# Altium schematic symbol library SCH - MCU - SI LABS - SI LABS EFM32G200F64 32-PIN QFN 6X6.SchLib: 1 symbol
Pins are listed as number, name and electrical type; pins without a type are passive.

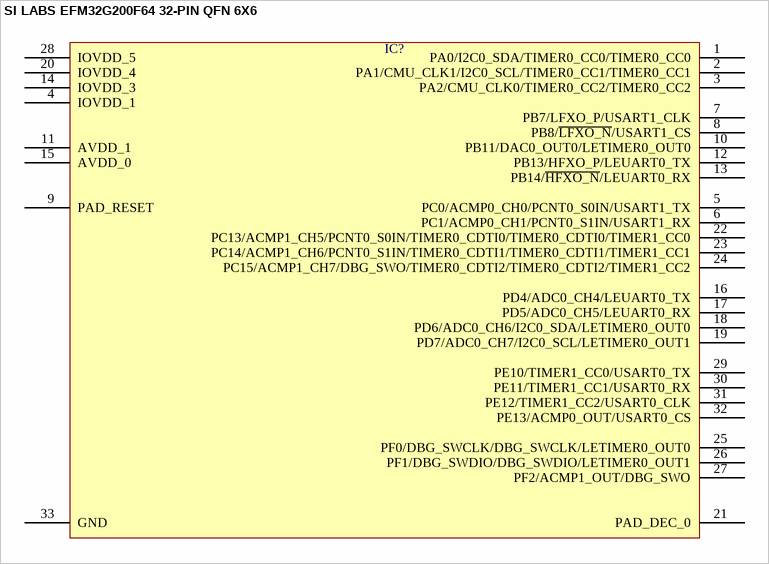
[diagram p0: symbol SI LABS EFM32G200F64 32-PIN QFN 6X6]

## SI LABS EFM32G200F64 32-PIN QFN 6X6
designator IC?  (value not drawn)
pins: 1 PA0/I2C0_SDA/TIMER0_CC0/TIMER0_CC0, 2 PA1/CMU_CLK1/I2C0_SCL/TIMER0_CC1/TIMER0_CC1, 3 PA2/CMU_CLK0/TIMER0_CC2/TIMER0_CC2, 4 IOVDD_1, 5 PC0/ACMP0_CH0/PCNT0_S0IN/USART1_TX, 6 PC1/ACMP0_CH1/PCNT0_S1IN/USART1_RX, 7 PB7/LFXO_P/USART1_CLK, 8 PB8/~{LFXO_N}/USART1_CS, 9 PAD_RESET, 10 PB11/DAC0_OUT0/LETIMER0_OUT0, 11 AVDD_1, 12 PB13/HFXO_P/LEUART0_TX, 13 PB14/~{HFXO_N}/LEUART0_RX, 14 IOVDD_3, 15 AVDD_0, 16 PD4/ADC0_CH4/LEUART0_TX, 17 PD5/ADC0_CH5/LEUART0_RX, 18 PD6/ADC0_CH6/I2C0_SDA/LETIMER0_OUT0, 19 PD7/ADC0_CH7/I2C0_SCL/LETIMER0_OUT1, 20 IOVDD_4, 21 PAD_DEC_0, 22 PC13/ACMP1_CH5/PCNT0_S0IN/TIMER0_CDTI0/TIMER0_CDTI0/TIMER1_CC0, 23 PC14/ACMP1_CH6/PCNT0_S1IN/TIMER0_CDTI1/TIMER0_CDTI1/TIMER1_CC1, 24 PC15/ACMP1_CH7/DBG_SWO/TIMER0_CDTI2/TIMER0_CDTI2/TIMER1_CC2, 25 PF0/DBG_SWCLK/DBG_SWCLK/LETIMER0_OUT0, 26 PF1/DBG_SWDIO/DBG_SWDIO/LETIMER0_OUT1, 27 PF2/ACMP1_OUT/DBG_SWO, 28 IOVDD_5, 29 PE10/TIMER1_CC0/USART0_TX, 30 PE11/TIMER1_CC1/USART0_RX, 31 PE12/TIMER1_CC2/USART0_CLK, 32 PE13/ACMP0_OUT/USART0_CS, 33 GND